# Altium schematic symbol library Schematic.SchLib: 78 symbols
Pins are listed as number, name and electrical type; pins without a type are passive.

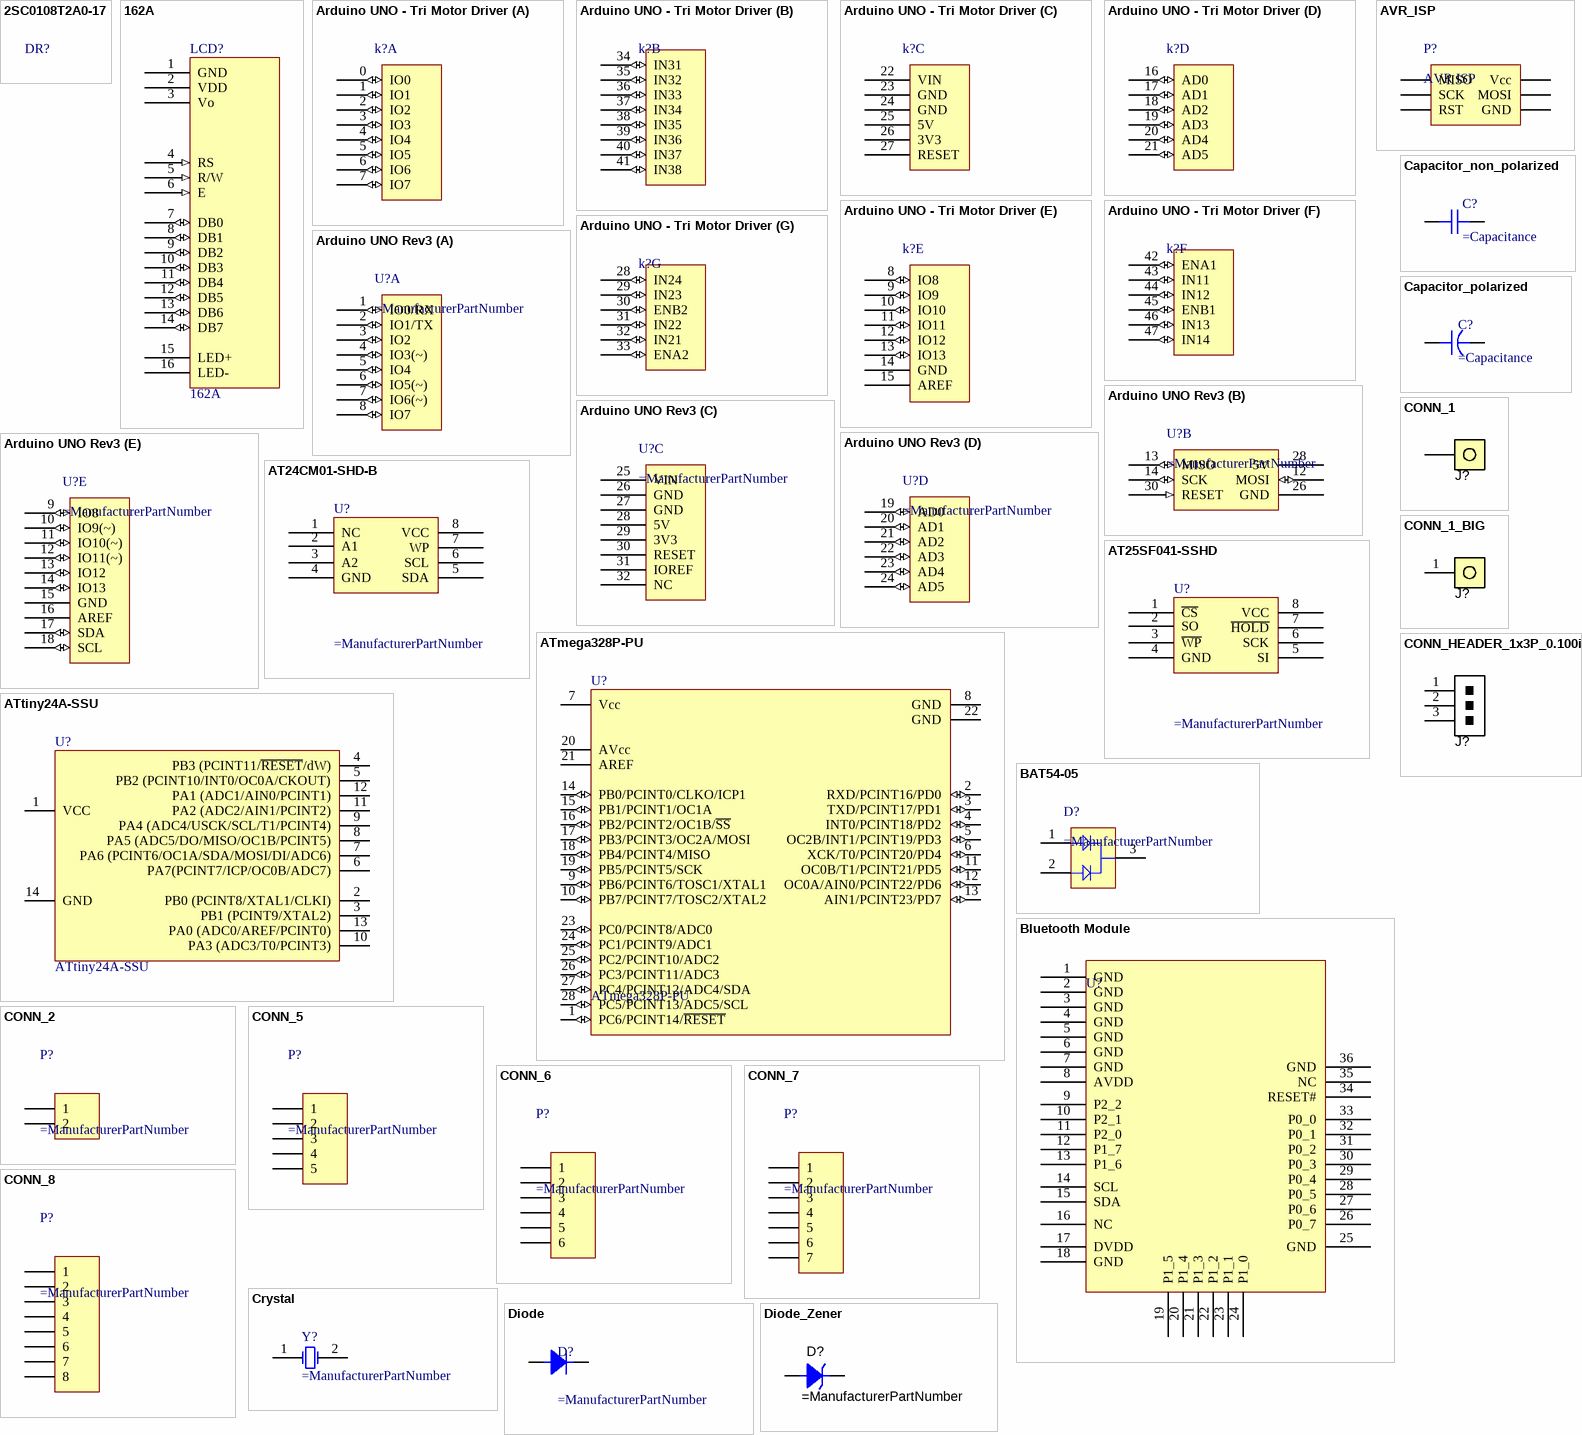
[diagram p0: symbols 2SC0108T2A0-17 to Diode_Zener]

## 2SC0108T2A0-17
designator DR?

## 162A
designator LCD?
16 char * 2 line LCD character display with b/light; Fitted: True
footprint DISPLAY 16x2
pins: 1 GND (power) "VSS - 0V", 2 VDD (power) "VDD - 5V", 3 Vo (hiz) "Input Voltage For LCD", 4 RS (in) "H = Data Signal, L = Instrunction Signal", 5 R/W (in) "H = Read Mode, L = Write Mode", 6 E (in) "Chip Enable (H, H->L)", 7 DB0 (io) "Chip Enable (H, H->L)", 8 DB1 (io) "Chip Enable (H, H->L)", 9 DB2 (io) "Chip Enable (H, H->L)", 10 DB3 (io) "Chip Enable (H, H->L)", 11 DB4 (io) "Chip Enable (H, H->L)", 12 DB5 (io) "Chip Enable (H, H->L)", 13 DB6 (io) "Chip Enable (H, H->L)", 14 DB7 (io) "Chip Enable (H, H->L)", 15 LED+ (power) "LED Backlight +", 16 LED- (power) "LED Backlight -"

## Arduino UNO - Tri Motor Driver
designator k?  (value not drawn)
Arduino UNO - Tri Motor Driver
footprint Shield Arduino Uno - Tri Motor Shield
part A pins: 0 IO0 (io), 1 IO1 (io), 2 IO2 (io), 3 IO3 (io), 4 IO4 (io), 5 IO5 (io), 6 IO6 (io), 7 IO7 (io)
part B pins: 34 IN31 (io), 35 IN32 (io), 36 IN33 (io), 37 IN34 (io), 38 IN35 (io), 39 IN36 (io), 40 IN37 (io), 41 IN38 (io)
part C pins: 22 VIN (power), 23 GND (power), 24 GND (power), 25 5V (power), 26 3V3 (power), 27 RESET
part D pins: 16 AD0 (io), 17 AD1 (io), 18 AD2 (io), 19 AD3 (io), 20 AD4 (io), 21 AD5 (io)
part E pins: 8 IO8 (io), 9 IO9 (io), 10 IO10 (io), 11 IO11 (io), 12 IO12 (io), 13 IO13 (io), 14 GND (power), 15 AREF
part F pins: 42 ENA1 (io), 43 IN11 (io), 44 IN12 (io), 45 ENB1 (io), 46 IN13 (io), 47 IN14 (io)
part G pins: 28 IN24 (io), 29 IN23 (io), 30 ENB2 (io), 31 IN22 (io), 32 IN21 (io), 33 ENA2 (io)

## Arduino UNO Rev3
designator U?
part A pins: 1 IO0/RX (io), 2 IO1/TX (io), 3 IO2 (io), 4 IO3(~) (io), 5 IO4 (io), 6 IO5(~) (io), 7 IO6(~) (io), 8 IO7 (io)
part B pins: 12 MOSI (io), 13 MISO (io), 14 SCK (io), 26 GND (power), 28 5V (power), 30 RESET (in)
part C pins: 25 VIN (power), 26 GND (power), 27 GND (power), 28 5V (power), 29 3V3 (power), 30 RESET, 31 IOREF (power), 32 NC
part D pins: 19 AD0 (io), 20 AD1 (io), 21 AD2 (io), 22 AD3 (io), 23 AD4 (io), 24 AD5 (io)
part E pins: 9 IO8 (io), 10 IO9(~) (io), 11 IO10(~) (io), 12 IO11(~) (io), 13 IO12 (io), 14 IO13 (io), 15 GND (power), 16 AREF, 17 SDA (io), 18 SCL (io)

## AT24CM01-SHD-B
designator U?
pins: 1 NC, 2 A1, 3 A2, 4 GND, 5 SDA, 6 SCL, 7 WP, 8 VCC

## AT25SF041-SSHD
designator U?
pins: 1 ~{CS}, 2 SO, 3 ~{WP}, 4 GND, 5 SI, 6 SCK, 7 ~{HOLD}, 8 VCC

## ATmega328P-PU
designator U?
8-bit AVR Microcontroller with 32 KB In-System Programmable Flash
pins: 1 PC6/PCINT14/~{RESET} (io), 2 RXD/PCINT16/PD0 (io), 3 TXD/PCINT17/PD1 (io), 4 INT0/PCINT18/PD2 (io), 5 OC2B/INT1/PCINT19/PD3 (io), 6 XCK/T0/PCINT20/PD4 (io), 7 Vcc, 8 GND, 9 PB6/PCINT6/TOSC1/XTAL1 (io), 10 PB7/PCINT7/TOSC2/XTAL2 (io), 11 OC0B/T1/PCINT21/PD5 (io), 12 OC0A/AIN0/PCINT22/PD6 (io), 13 AIN1/PCINT23/PD7 (io), 14 PB0/PCINT0/CLKO/ICP1 (io), 15 PB1/PCINT1/OC1A (io), 16 PB2/PCINT2/OC1B/~{SS} (io), 17 PB3/PCINT3/OC2A/MOSI (io), 18 PB4/PCINT4/MISO (io), 19 PB5/PCINT5/SCK (io), 20 AVcc, 21 AREF, 22 GND, 23 PC0/PCINT8/ADC0 (io), 24 PC1/PCINT9/ADC1 (io), 25 PC2/PCINT10/ADC2 (io), 26 PC3/PCINT11/ADC3 (io), 27 PC4/PCINT12/ADC4/SDA (io), 28 PC5/PCINT13/ADC5/SCL (io)

## ATtiny24A-SSU
designator U?
footprint 14S1_M
footprint SOIC_P1.27L6.00A1.75-14
pins: 1 VCC, 2 PB0 (PCINT8/XTAL1/CLKI), 3 PB1 (PCINT9/XTAL2), 4 PB3 (PCINT11/~{RESET}/dW), 5 PB2 (PCINT10/INT0/OC0A/CKOUT), 6 PA7(PCINT7/ICP/OC0B/ADC7), 7 PA6 (PCINT6/OC1A/SDA/MOSI/DI/ADC6), 8 PA5 (ADC5/DO/MISO/OC1B/PCINT5), 9 PA4 (ADC4/USCK/SCL/T1/PCINT4), 10 PA3 (ADC3/T0/PCINT3), 11 PA2 (ADC2/AIN1/PCINT2), 12 PA1 (ADC1/AIN0/PCINT1), 13 PA0 (ADC0/AREF/PCINT0), 14 GND

## AVR_ISP
designator P?, comment AVR ISP
ARV ISP Connector
footprint HDR-M-2x3-2.54mm-180-9.2mm (Male Header, 2 lines, 3 columns, 180 degrees, 9.2 mm length)
pins: 1 MISO, 2 Vcc, 3 SCK, 4 MOSI, 5 RST, 6 GND

## BAT54-05
designator D?
Silicon Schottky Diode, SOT23, Reel, Green
pins: 1 A1, 2 A2, 3 K

## Bluetooth Module
designator U?
pins: 1 GND, 2 GND, 3 GND, 4 GND, 5 GND, 6 GND, 7 GND, 8 AVDD, 9 P2_2, 10 P2_1, 11 P2_0, 12 P1_7, 13 P1_6, 14 SCL, 15 SDA, 16 NC, 17 DVDD, 18 GND, 19 P1_5, 20 P1_4, 21 P1_3, 22 P1_2, 23 P1_1, 24 P1_0, 25 GND, 26 P0_7, 27 P0_6, 28 P0_5, 29 P0_4, 30 P0_3, 31 P0_2, 32 P0_1, 33 P0_0, 34 RESET#, 35 NC, 36 GND

## Capacitor_non_polarized
designator C?
Non-polarised capacitor
pins: 1, 2

## Capacitor_polarized
designator C?
Polarised capacitor
pins: 1, 2

## CONN_1
designator J?
pins: 1

## CONN_1_BIG
designator J?
pins: 1

## CONN_2
designator P?
pins: 1, 2

## CONN_5
designator P?
pins: 1, 2, 3, 4, 5

## CONN_6
designator P?
pins: 1, 2, 3, 4, 5, 6

## CONN_7
designator P?
pins: 1, 2, 3, 4, 5, 6, 7

## CONN_8
designator P?
pins: 1, 2, 3, 4, 5, 6, 7, 8

## CONN_HEADER_1x3P_0.100in
designator J?
pins: 1, 2, 3

## Crystal
designator Y?
Crystal Oscillator
footprint HC49US (Crystal, SMD; 2 Leads; Body 12.7 x 4.7 mm)
pins: 1 OSC1, 2 OSC2

## Diode
designator D?
Diode
pins: 1 A, 2 K

## Diode_Zener
designator D?
pins: 1 A, 2 K

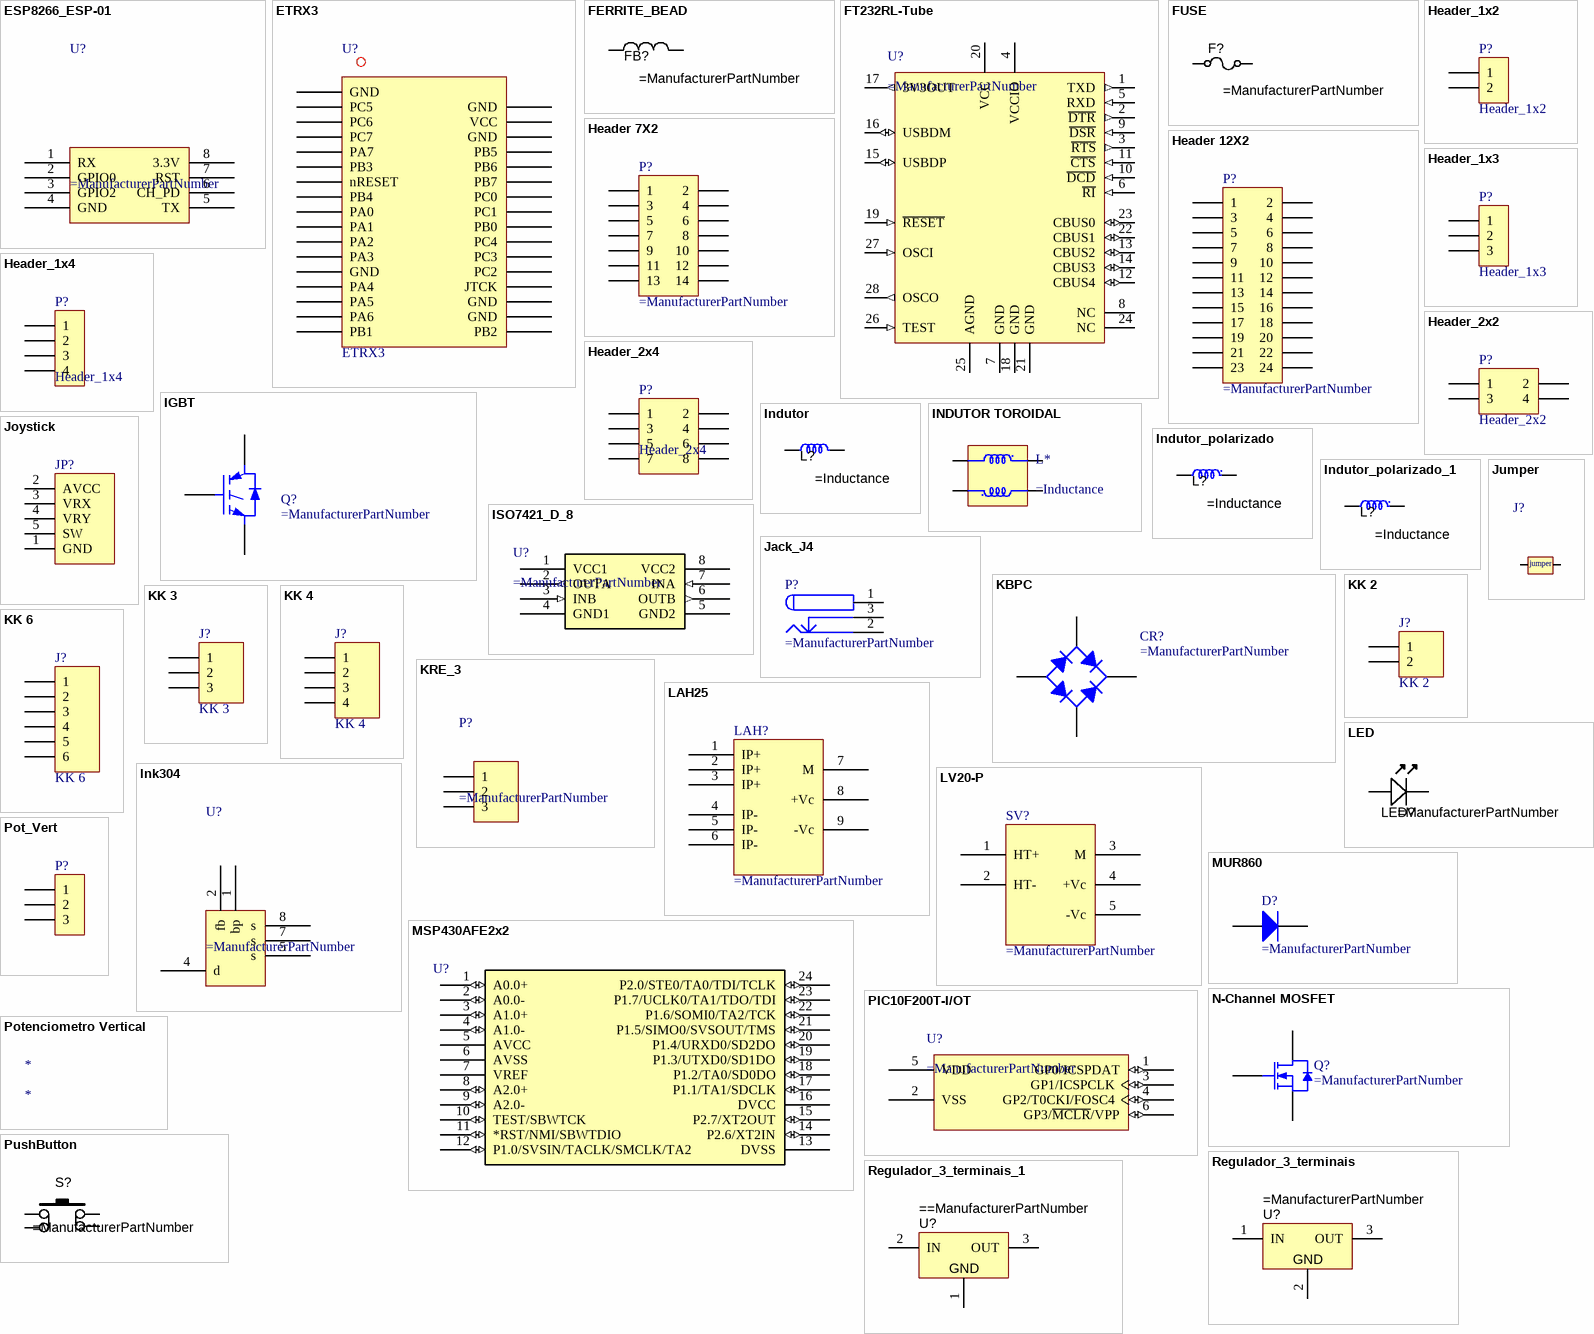
[diagram p1: symbols ESP8266_ESP-01 to Regulador_3_terminais_1]

## ESP8266_ESP-01
designator U?
Modulo WiFi ESP8266 ESP-01
pins: 1 RX, 2 GPIO0, 3 GPIO2, 4 GND, 5 TX, 6 CH_PD, 7 RST, 8 3.3V

## ETRX3
designator U?
footprint ETRX351/357
pins: 1 GND, 2 PC5, 3 PC6, 4 PC7, 5 PA7, 6 PB3, 7 nRESET, 8 PB4, 9 PA0, 10 PA1, 11 PA2, 12 PA3, 13 GND, 14 PA4, 15 PA5, 16 PA6, 17 PB1, 18 PB2, 19 GND, 20 GND, 21 JTCK, 22 PC2, 23 PC3, 24 PC4, 25 PB0, 26 PC1, 27 PC0, 28 PB7, 29 PB6, 30 PB5, 31 GND, 32 VCC, 33 GND

## FERRITE_BEAD
designator FB?
pins: 1, 2

## FT232RL-Tube
designator U?
USB UART Asynchronous Serial Data Transfer Chip, SSOP-28, Tube
pins: 1 TXD (out), 2 ~{DTR} (out), 3 ~{RTS} (out), 4 VCCIO (power), 5 RXD (in), 6 ~{RI} (in), 7 GND (power), 8 NC, 9 ~{DSR} (in), 10 ~{DCD} (in), 11 ~{CTS} (in), 12 CBUS4 (io), 13 CBUS2 (io), 14 CBUS3 (io), 15 USBDP (io), 16 USBDM (io), 17 3V3OUT (out), 18 GND (power), 19 ~{RESET} (in), 20 VCC (power), 21 GND (power), 22 CBUS1 (io), 23 CBUS0 (io), 24 NC, 25 AGND (power), 26 TEST (in), 27 OSCI (in), 28 OSCO (out)

## FUSE
designator F?
pins: 1, 2

## Header 7X2
designator P?
Header, 7-Pin, Dual row
pins: 1, 2, 3, 4, 5, 6, 7, 8, 9, 10, 11, 12, 13, 14

## Header 12X2
designator P?
Header, 12-Pin, Dual row
pins: 1, 2, 3, 4, 5, 6, 7, 8, 9, 10, 11, 12, 13, 14, 15, 16, 17, 18, 19, 20, 21, 22, 23, 24

## Header_1x2
designator P?
Header, 1 Line, 2 Columns, 2 Pins
pins: 1, 2

## Header_1x3
designator P?
Header, 1 Line, 3 Columns, 3 Pins
pins: 1, 2, 3

## Header_1x4
designator P?
Header, 1 Line, 4 Columns, 4 Pins
pins: 1, 2, 3, 4

## Header_2x2
designator P?
Header, 2 Lines, 2 Columns, 4 Pins; LatestRevisionDate: 17-Jul-2002; LatestRevisionNote: Re-released for DXP Platform.; Publisher: Altium Limited
footprint HDR-F-2x2-1.27mm-SMD-4.57mm (Female Header, 2 lines, 2 pins per line, SMD, 4.57 mm length; 3D ASSMANN WSW components)
pins: 1, 2, 3, 4

## Header_2x4
designator P?
Header, 2 Lines, 4 Columns, 8 Pins
pins: 1, 2, 3, 4, 5, 6, 7, 8

## IGBT
designator Q?
pins: 1 G, 2 C, 3 E

## Indutor
designator L?
pins: 1, 2

## INDUTOR TOROIDAL
designator L*
footprint INDUTOR TOROIDAL (FIXED IND 1MH 1.3A 400 MOHM TH)
pins: 1, 2, 3, 4

## Indutor_polarizado
designator L?
Indutor polarizado
pins: 1, 2

## Indutor_polarizado_1
designator L?
Indutor smd 2uH
pins: 1, 2

## ISO7421_D_8
designator U?
Imported
pins: 1 VCC1 (power), 2 OUTA (out), 3 INB (in), 4 GND1 (power), 5 GND2 (power), 6 OUTB (out), 7 INA (in), 8 VCC2 (power)

## Jack_J4
designator P?
J4 Power Connector
pins: 1, 2, 3

## Joystick
designator JP?
footprint HDR-M-1x5-2.54mm-180-9.2mm (Male Header, 1 line 5 rows, 180 degrees, 9.2 mm length)
footprint HDR-M-1x5-2.54mm-180-11.2mm (Male Header, 1 line 5 rows, 180 degrees, 11.2 mm length)
footprint HDR-M-1x5-2.54mm-180-11.6mm (Male Header, 1 line 5 rows, 180 degrees, 11.6 mm length)
footprint HDR-M-1x5-2.54mm-180-12.4mm (Male Header, 1 line 5 rows, 180 degrees, 12.4 mm length)
footprint HDR-M-1x5-2.54mm-180-13.6mm (Male Header, 1 line 5 rows, 180 degrees, 13.6 mm length)
footprint HDR-M-1x5-2.54mm-180-21.1mm (Male Header, 1 line 5 rows, 180 degrees, 21.1 mm length)
footprint HDR-F-1x5-2.54mm-180-8.7mm (Female Header, 1 line 5 rows, 180 degrees, 8.7 mm length)
pins: 1 GND, 2 AVCC, 3 VRX, 4 VRY, 5 SW

## Jumper
designator J?  (value not drawn)
pins: 1, 2
text: jumper

## KBPC
designator CR?
pins: 1, 2, 3, 4

## KK 2
designator J?
Male Connector 2 ways 180D
pins: 1, 2
2 alternate drawings of the same symbol

## KK 3
designator J?
Male Connector 3 ways 180D
pins: 1, 2, 3

## KK 4
designator J?
Male Connector 4 ways 180D
pins: 1, 2, 3, 4

## KK 6
designator J?
Male Connector 6 ways 180D
pins: 1, 2, 3, 4, 5, 6

## KRE_3
designator P?
pins: 1, 2, 3

## LAH25
designator LAH?
pins: 1 IP+, 2 IP+, 3 IP+, 4 IP-, 5 IP-, 6 IP-, 7 M, 8 +Vc, 9 -Vc

## LED
designator LED?
pins: 1 A, 2 K

## lnk304
designator U?
pins: 1 bp, 2 fb, 4 d, 5 s, 7 s, 8 s

## LV20-P
designator SV?
pins: 1 HT+, 2 HT-, 3 M, 4 +Vc, 5 -Vc

## MSP430AFE2x2
designator U?
pins: 1 A0.0+ (io), 2 A0.0- (io), 3 A1.0+ (io), 4 A1.0- (io), 5 AVCC (power), 6 AVSS (power), 7 VREF (power), 8 A2.0+ (io), 9 A2.0- (io), 10 TEST/SBWTCK (io), 11 *RST/NMI/SBWTDIO (io), 12 P1.0/SVSIN/TACLK/SMCLK/TA2 (io), 13 DVSS (power), 14 P2.6/XT2IN (io), 15 P2.7/XT2OUT (io), 16 DVCC (power), 17 P1.1/TA1/SDCLK (io), 18 P1.2/TA0/SD0DO (io), 19 P1.3/UTXD0/SD1DO (io), 20 P1.4/URXD0/SD2DO (io), 21 P1.5/SIMO0/SVSOUT/TMS (io), 22 P1.6/SOMI0/TA2/TCK (io), 23 P1.7/UCLK0/TA1/TDO/TDI (io), 24 P2.0/STE0/TA0/TDI/TCLK (io)

## MUR860
designator D?
8 A, 400 V - 600 V, Ultrafast Diodes
pins: 1 K, 2 A

## N-Channel MOSFET
designator Q?
N-channel Enhancement Mode Field-effect Transistor
pins: 1 G, 2 S, 3 D

## PIC10F200T-I/OT
designator U?
8-bit Flash Microcontroller, 256 (x12-Bit words) Program Memory, 16 Bytes Data Memory, 6-Pin SOT-23, Industrial Temperature, Tape and Reel
pins: 1 GP0/ICSPDAT (io), 2 VSS (power), 3 GP1/ICSPCLK (io), 4 GP2/T0CKI/FOSC4 (io), 5 VDD (power), 6 GP3/~{MCLR}/VPP (io)

## Pot_Vert
designator P?
Header, 1 Line, 3 Columns, 3 Pins
pins: 1, 2, 3

## Potenciometro Vertical
designator *

## PushButton
designator S?
pins: 1, 1, 2, 2

## Regulador_3_terminais
designator U?
pins: 1 IN (power), 2 GND (power), 3 OUT (power)

## Regulador_3_terminais_1
designator U?
pins: 1 GND (power), 2 IN (power), 3 OUT (power)

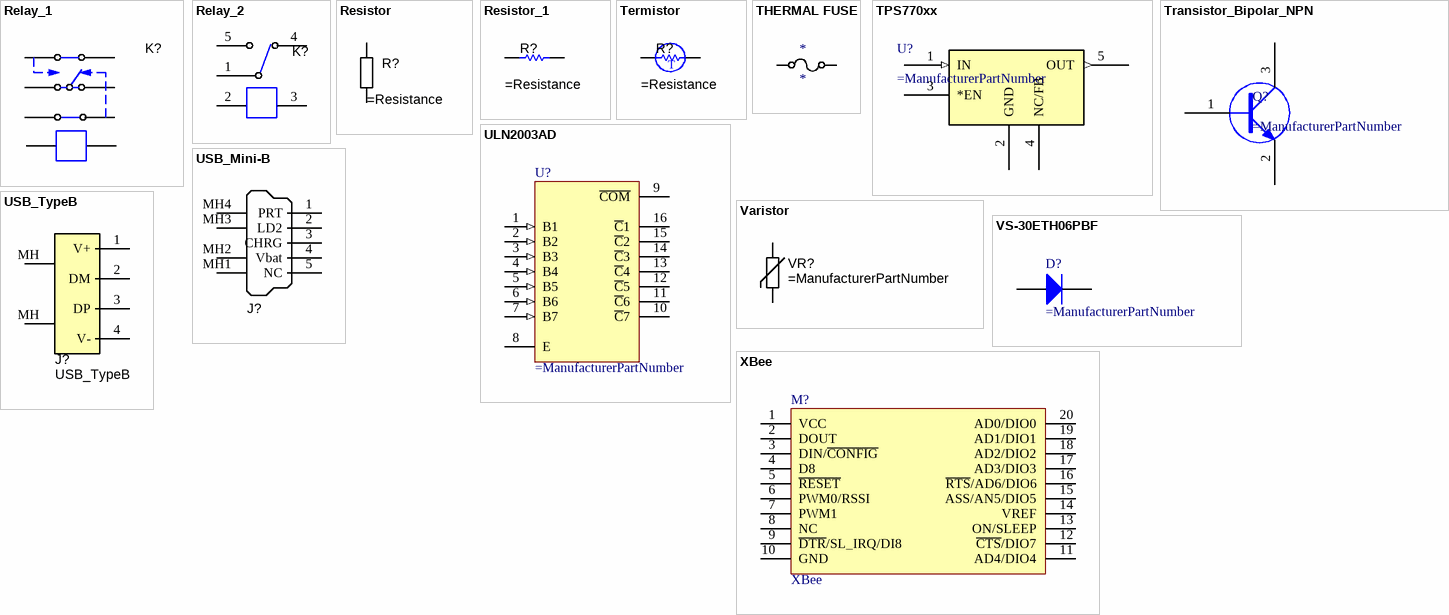
[diagram p2: symbols Relay_1 to XBee]

## Relay_1
designator K?
pins: 1, 2, 3, 4, 5, 6, 7, 8

## Relay_2
designator K?
pins: 1, 2, 3, 4, 5

## Resistor
designator R?
Resistor
pins: 1, 2

## Resistor_1
designator R?
Resistor
pins: 1, 2

## Termistor
designator R?
Termistor
pins: 1, 2
text: T

## THERMAL FUSE
designator *
footprint THERMAL CUTOFF FUSE (10A 72ºC)
pins: 1, 2

## TPS770xx
designator U?
pins: 1 IN (in), 2 GND (power), 3 *EN, 4 NC/FB, 5 OUT (out)

## Transistor_Bipolar_NPN
designator Q?
Transistor NPN Bipolar
pins: 1, 2, 3

## ULN2003AD
designator U?
Darlington Transistor Array
pins: 1 B1 (in), 2 B2 (in), 3 B3 (in), 4 B4 (in), 5 B5 (in), 6 B6 (in), 7 B7 (in), 8 E (power), 9 ~{COM}, 10 ~{C}7 (oc), 11 ~{C}6 (oc), 12 ~{C}5 (oc), 13 ~{C}4 (oc), 14 ~{C}3 (oc), 15 ~{C}2 (oc), 16 ~{C}1 (oc)

## USB_Mini-B
designator J?  (value not drawn)
Connector SMD USB Type Mini-B
pins: 1 PRT, 2 LD2, 3 CHRG, 4 Vbat, 5 NC, MH1 Shell, MH2 Shell, MH3 Shell, MH4 Shell

## USB_TypeB
designator J?
Connector THT Type B USB connector
pins: 1 V+, 2 DM, 3 DP, 4 V-, MH Shell, MH Shell

## Varistor
designator VR?
pins: 1, 2

## VS-30ETH06PBF
designator D?
Hyperfast Rectifier, 30 A FRED
pins: 1 K, 2 A

## XBee
designator M?
XBee RF Multipoint Module
pins: 1 VCC, 2 DOUT, 3 DIN/~{CONFIG}, 4 D8, 5 ~{RESET}, 6 PWM0/RSSI, 7 PWM1, 8 NC, 9 ~{DTR}/SL_IRQ/DI8, 10 GND, 11 AD4/DIO4, 12 ~{CTS}/DIO7, 13 ON/SLEEP, 14 VREF, 15 ASS/AN5/DIO5, 16 ~{RTS}/AD6/DIO6, 17 AD3/DIO3, 18 AD2/DIO2, 19 AD1/DIO1, 20 AD0/DIO0